# Altium footprint library Conn_TE_282837-2_eec_0.PcbLib: 1 footprints
Each footprint in its own frame and in the unit in brackets; x right, y up, seen from the top. Pads: shape width x height; smd on the part's side, far side on the other; paste and mask are expansions set on the pad; w line width, h text height; cw(c..) or ccw(c..) is an arc to the next point about the centre after c.
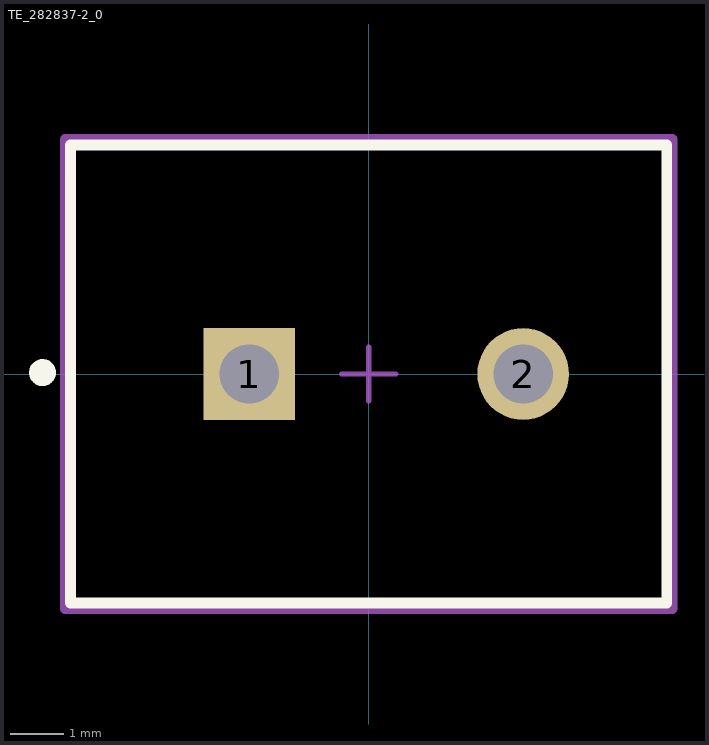
[diagram p0: the footprint, top view; thin cyan lines are the x and y axes]

## TE_282837-2_0 [mm]
pads (2):
  rect 1.7x1.7 hole 1.1 paste-1000 mask+0: 1(-2.215,0)
  round 1.7 hole 1.1 paste-1000 mask+0: 2(2.865,0)
Top Overlay:
  circle w0.25: c-6.05,0.025 r0.125
  lines w0.2: -5.53,-4.25 5.53,-4.25 5.53,4.25 -5.53,4.25 -5.53,-4.25
Mechanical 10:
  lines w0.2: -5.63,-4.35 5.63,-4.35 5.63,4.35 -5.63,4.35 -5.63,-4.35
  text ".Designator" at 0,0 h1
Mechanical 12:
  lines w0.15: -5.53,-4.25 5.53,-4.25 5.53,4.25 -5.53,4.25 -5.53,-4.25
Mechanical 15:
  lines w0.1: -0.5,0 0.5,0 ; 0,-0.5 0,0.5
  lines w0.2: -5.63,-4.35 5.63,-4.35 5.63,4.35 -5.63,4.35 -5.63,-4.35
3D body "Conn_TE_282837-2_eec.STEP": height 0.25, standoff 0, extent -5.63,-4.35 5.63,4.35